# Altium footprint library TPS7A4901DRBT.PcbLib: 1 footprints
Each footprint in its own frame and in the unit in brackets; x right, y up, seen from the top. Pads: shape width x height; smd on the part's side, far side on the other; paste and mask are expansions set on the pad; w line width, h text height; cw(c..) or ccw(c..) is an arc to the next point about the centre after c.
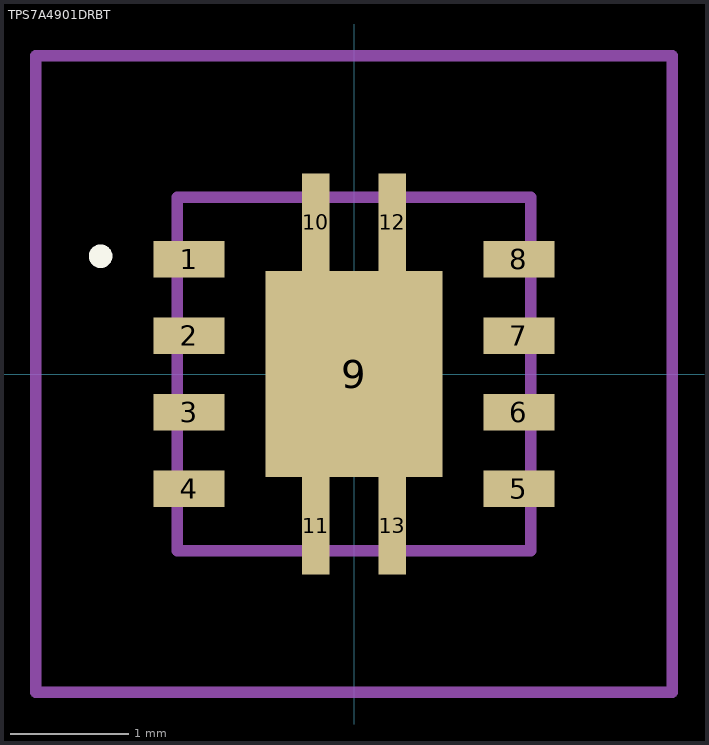
[diagram p0: the footprint, top view; thin cyan lines are the x and y axes]

## TPS7A4901DRBT [mm]
pads (13):
  rect 0.6x0.31 smd: 1(-1.4,0.975) 2(-1.4,0.325) 3(-1.4,-0.325) 4(-1.4,-0.975) 5(1.4,-0.975) 6(1.4,-0.325) 7(1.4,0.325) 8(1.4,0.975)
  rect 1.5x1.75 smd: 9(0,0)
  rect 0.23x0.825 smd: 10(-0.325,1.287) 11(-0.325,-1.287) 12(0.325,1.287) 13(0.325,-1.287)
Top Overlay:
  lines w0.1: -2.2,1 -2.2,1 ; -2.2,1 ccw(c-2.15,1) -2.1,1 ; -2.2,1 cw(c-2.15,1) -2.1,1 ; -2.2,1 -2.2,1 ; -2.2,1 ccw(c-2.15,1) -2.1,1 ; -2.1,1 -2.1,1
Mechanical 15:
  lines w0.1: -1.5,-1.5 1.5,-1.5 1.5,1.5 -1.5,1.5 -1.5,-1.5
Mechanical 20:
  lines w0.1: -2.7,-2.7 2.7,-2.7 2.7,2.7 -2.7,2.7 -2.7,-2.7